# Altium integrated library EEEFK1V221P.IntLib: 1 symbol
Pins are listed as number, name and electrical type; pins without a type are passive.

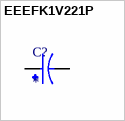
[diagram p0: symbol EEEFK1V221P]

## EEEFK1V221P
designator C?
220ÂµF 35V Aluminum Electrolytic Capacitors Radial, Can - SMD 2000 Hrs @ 105Â°C; MF: Panasonic; MP: EEEFK1V221P; Price: None; Package: RADIAL-2 Panasonic; Check_prices: https://www.snapeda.com/parts/EEEFK1V221P/Panasonic/view-part/2501925/?ref=eda; Availability: In Stock; Value: *; SnapEDA_Link: https://www.snapeda.com/parts/EEEFK1V221P/Panasonic/view-part/2501925/?ref=snap
footprint CAP_EEEFK1V221P
pins: 1, 2